# Altium integrated library NPN.IntLib: 4 symbols
Pins are listed as number, name and electrical type; pins without a type are passive.

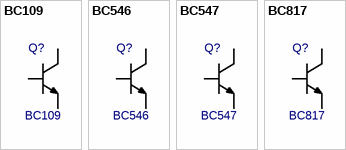
[diagram p0: symbols BC109 to BC817]

## BC109
designator Q?
Value: {Value}
footprint TO-18 (TO Cylindrical Style, 1.27 mm pitch; 3 pin, 5.84 mm W X 5.50 mm H body); pin to pad B>2 C>3 E>1
pins: B, C, E

## BC546
designator Q?
Value: {Value}
footprint TO-92; pin to pad B>2 C>1 E>3
pins: B, C, E

## BC547
designator Q?
Value: {Value}
footprint TO-92; pin to pad B>2 C>1 E>3
pins: B, C, E

## BC817
designator Q?
Value: {Value}
footprint SOT23-3_L (Small Outline Transistor (SOT23), 0.96 mm pitch; 3 pin, 2.92 mm L X 1.30 mm W X 1.12 mm H body); pin to pad B>1 C>3 E>2
footprint SOT23-3_M (Small Outline Transistor (SOT23), 0.96 mm pitch; 3 pin, 2.92 mm L X 1.30 mm W X 1.12 mm H body); pin to pad B>1 C>3 E>2
footprint SOT23-3_N (Small Outline Transistor (SOT23), 0.96 mm pitch; 3 pin, 2.92 mm L X 1.30 mm W X 1.12 mm H body); pin to pad B>1 C>3 E>2
pins: B, C, E